# Altium schematic symbol library 433_demo.SchLib: 4 symbols
Pins are listed as number, name and electrical type; pins without a type are passive.

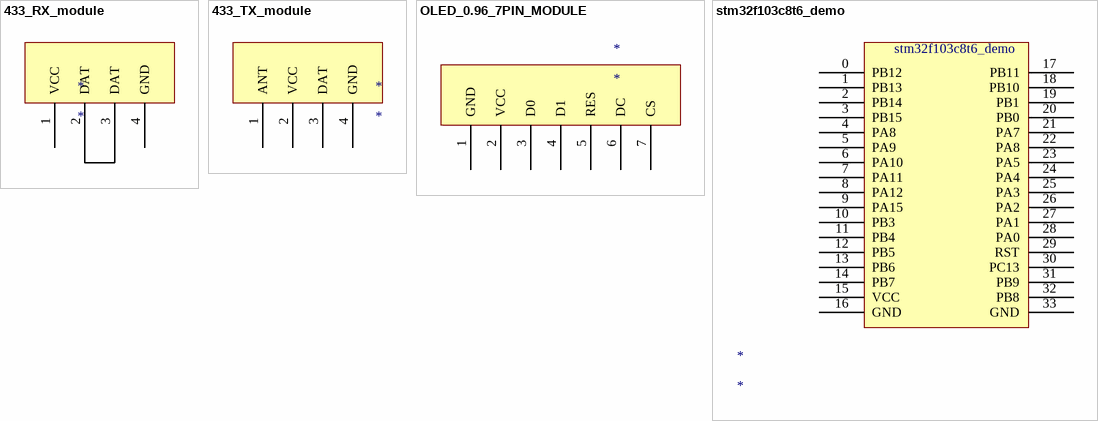
[diagram p0: symbols 433_RX_module to stm32f103c8t6_demo]

## 433_RX_module
designator *
pins: 1 VCC, 2 DAT, 3 DAT, 4 GND

## 433_TX_module
designator *
pins: 1 ANT, 2 VCC, 3 DAT, 4 GND

## OLED_0.96_7PIN_MODULE
designator *
pins: 1 GND, 2 VCC, 3 D0, 4 D1, 5 RES, 6 DC, 7 CS

## stm32f103c8t6_demo
designator *
pins: 0 PB12, 1 PB13, 2 PB14, 3 PB15, 4 PA8, 5 PA9, 6 PA10, 7 PA11, 8 PA12, 9 PA15, 10 PB3, 11 PB4, 12 PB5, 13 PB6, 14 PB7, 15 VCC, 16 GND, 17 PB11, 18 PB10, 19 PB1, 20 PB0, 21 PA7, 22 PA8, 23 PA5, 24 PA4, 25 PA3, 26 PA2, 27 PA1, 28 PA0, 29 RST, 30 PC13, 31 PB9, 32 PB8, 33 GND